# EAGLE library part FDC6330L (library Neel)
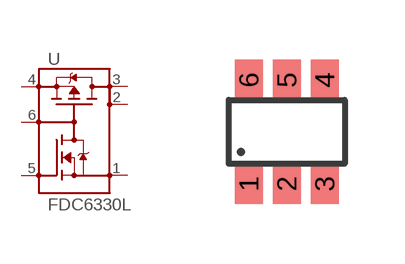
[diagram p21: symbol with the pads of SOT23-6; footprint SOT23-6]

Designator prefix -

## FDC6330L  [SOT23-6]
1  R2
2  VOUT/C1'
3  VOUT/C1
4  VIN/R1
5  !OFF
6  R1C1

## Footprint SOT23-6 (pad centres in mm)
smd 0.7 x 1: 1 -0.95,-1.3; 2 0,-1.3; 3 0.95,-1.3; 4 0.95,1.3; 5 0,1.3; 6 -0.95,1.3